# Altium footprint library SOIC.PcbLib: 23 footprints (part 2 of 2)
Each footprint in its own frame and in the unit in brackets; x right, y up, seen from the top. Pads: shape width x height; smd on the part's side, far side on the other; paste and mask are expansions set on the pad; w line width, h text height; cw(c..) or ccw(c..) is an arc to the next point about the centre after c.
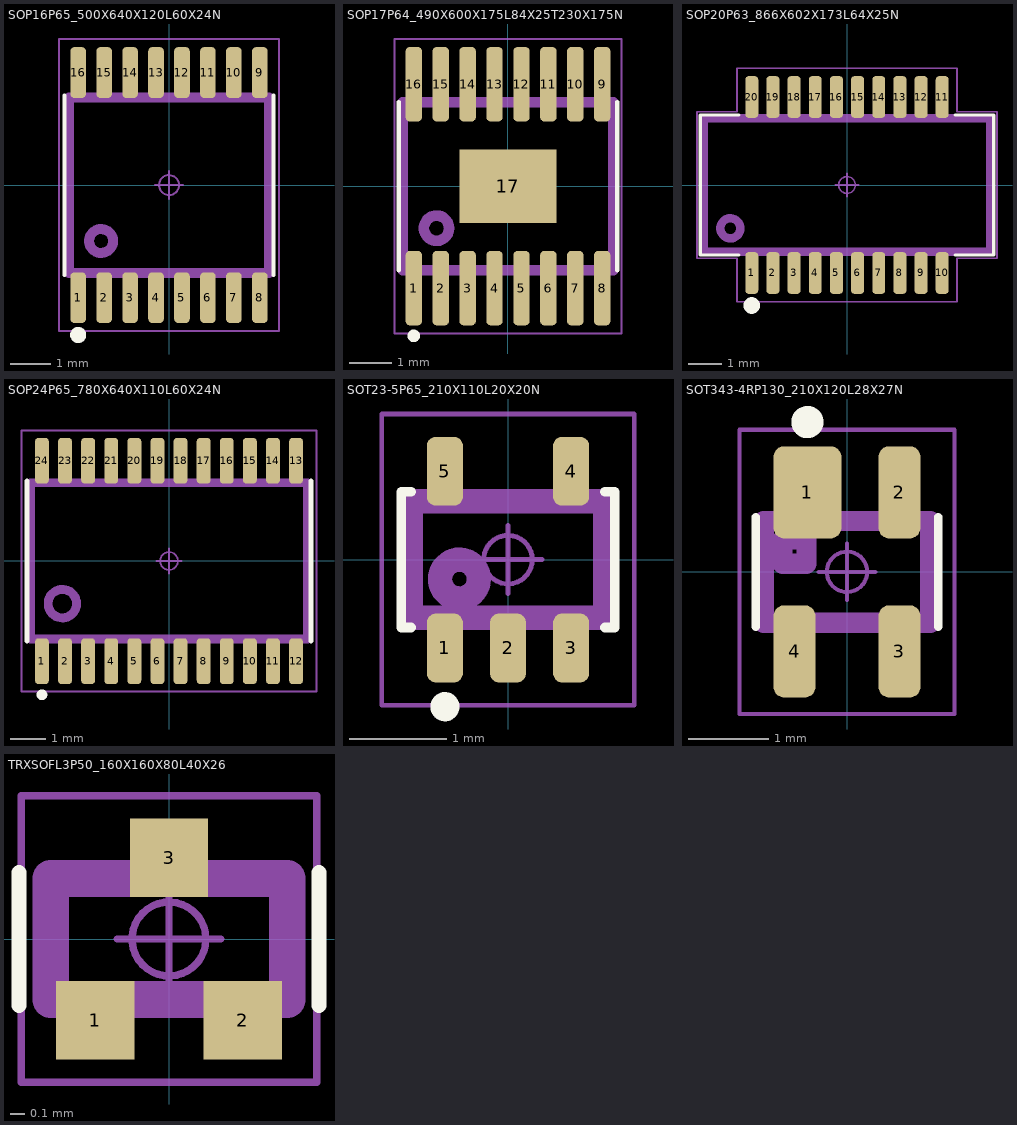
[diagram p1: the footprints below, top view; thin cyan lines are the x and y axes]

## SOP16P65_500X640X120L60X24N [mm] "Small Outline Pkg (SOP), 0.65 mm pitch; 16 pin, 5.00 mm L X 4.40 mm W X 1.20 mm H body"
height 1.2
pads (16):
  rrect51% 0.39x1.27 smd: 1(-2.275,-2.82) 2(-1.625,-2.82) 3(-0.975,-2.82) 4(-0.325,-2.82) 5(0.325,-2.82) 6(0.975,-2.82) 7(1.625,-2.82) 8(2.275,-2.82) 9(2.275,2.82) 10(1.625,2.82) 11(0.975,2.82) 12(0.325,2.82) 13(-0.325,2.82) 14(-0.975,2.82) 15(-1.625,2.82) 16(-2.275,2.82)
Top Overlay:
  circle w0.2: c-2.275,-3.755 r0.1
  lines w0.1: -2.62,-2.25 -2.62,2.25 ; 2.62,-2.25 2.62,2.25
Top Assembly:
  circle w0.25: c-1.7,-1.4 r0.3
  lines w0.25: -2.5,-2.2 -2.5,2.2 2.5,2.2 2.5,-2.2 -2.5,-2.2
  text ".Designator" at -2.2,-0.3 h1.5
Top Courtyard:
  circle w0.05: c0,0 r0.25
  lines w0.05: -0.35,0 0.35,0 ; 0,-0.35 0,0.35 ; -2.75,-3.66 -2.75,3.66 2.75,3.66 2.75,-3.66 -2.75,-3.66
3D body "SOP16P65_500X640X120L60X24.STEP": height 1.2, standoff 0, extent -2.5,-3.2 2.5,3.2

## SOP17P64_490X600X175L84X25T230X175N [mm] "Small Outline Pkg (SOP with Tab), 0.64 mm pitch; 16 pin, 4.90 mm L X 3.90 mm W X 1.75 mm H body"
height 1.75
pads (17):
  rrect51% 0.39x1.77 smd: 1(-2.24,-2.425) 2(-1.6,-2.425) 3(-0.96,-2.425) 4(-0.32,-2.425) 5(0.32,-2.425) 6(0.96,-2.425) 7(1.6,-2.425) 8(2.24,-2.425) 9(2.24,2.425) 10(1.6,2.425) 11(0.96,2.425) 12(0.32,2.425) 13(-0.32,2.425) 14(-0.96,2.425) 15(-1.6,2.425) 16(-2.24,2.425)
  rect 2.3x1.75 smd paste-2.3: 17(0,0)
Top Overlay:
  circle w0.15: c-2.24,-3.56 r0.075
  lines w0.1: -2.6,-2 -2.6,2 ; 2.6,-2 2.6,2
Top Paste:
  region: 1.005,-0.735 0.145,-0.735 0.145,-0.145 1.005,-0.145
  region: 1.005,0.145 0.145,0.145 0.145,0.735 1.005,0.735
  region: -0.145,-0.735 -1.005,-0.735 -1.005,-0.145 -0.145,-0.145
  region: -0.145,0.145 -1.005,0.145 -1.005,0.735 -0.145,0.735
Top Assembly:
  circle w0.25: c-1.7,-1 r0.3
  lines w0.25: -2.5,-2 -2.5,2 2.5,2 2.5,-2 -2.5,-2
  text ".Designator" at -2.2,-0.2 h1.5
Top Courtyard:
  circle w0.05: c0,0 r0.25
  lines w0.05: -0.35,0 0.35,0 ; 0,-0.35 0,0.35 ; -2.7,-3.5 -2.7,3.5 2.7,3.5 2.7,-3.5 -2.7,-3.5
3D body "SOP17P64_490X600X175L84X25T230X175.STEP": height 1.75, standoff 0, extent -2.45,-3 2.45,3

## SOP20P63_866X602X173L64X25N [mm] "Small Outline Pkg (SOP), 0.635 mm pitch; 20 pin, 8.66 mm L X 3.91 mm W X 1.73 mm H body"
height 1.73
pads (20):
  rrect51% 0.39x1.25 smd: 1(-2.857,-2.64) 2(-2.222,-2.64) 3(-1.587,-2.64) 4(-0.953,-2.64) 5(-0.318,-2.64) 6(0.318,-2.64) 7(0.953,-2.64) 8(1.587,-2.64) 9(2.222,-2.64) 10(2.857,-2.64) 11(2.857,2.64) 12(2.222,2.64) 13(1.587,2.64) 14(0.953,2.64) 15(0.318,2.64) 16(-0.318,2.64) 17(-0.953,2.64) 18(-1.587,2.64) 19(-2.222,2.64) 20(-2.857,2.64)
Top Overlay:
  circle w0.25: c-2.857,-3.615 r0.125
  lines w0.1: -3.25,-2.1 -4.4,-2.1 -4.4,2.1 -3.25,2.1 ; 3.25,-2.1 4.4,-2.1 4.4,2.1 3.25,2.1
Top Assembly:
  circle w0.25: c-3.5,-1.3 r0.3
  lines w0.25: -4.3,-2 4.3,-2 4.3,2 -4.3,2 -4.3,-2
  text ".Designator" at -2.7,-0.3 h1.5
Top Courtyard:
  circle w0.05: c0,0 r0.25
  lines w0.05: -0.35,0 0.35,0 ; 0,-0.35 0,0.35 ; -4.5,-2.2 -3.3,-2.2 -3.3,-3.5 3.3,-3.5 3.3,-2.2 4.5,-2.2 4.5,2.2 3.3,2.2 3.3,3.5 -3.3,3.5 -3.3,2.2 -4.5,2.2 -4.5,-2.2
3D body "SOP20P63_866X602X173L64X25.STEP": height 1.73, standoff 0, extent -4.33,-3.01 4.33,3.01

## SOP24P65_780X640X110L60X24N [mm] "Small Outline Pkg (SOP), 0.65 mm pitch; 24 pin, 7.80 mm L X 4.40 mm W X 1.10 mm H body"
height 1.1
pads (24):
  rrect51% 0.39x1.29 smd: 1(-3.575,-2.82) 2(-2.925,-2.82) 3(-2.275,-2.82) 4(-1.625,-2.82) 5(-0.975,-2.82) 6(-0.325,-2.82) 7(0.325,-2.82) 8(0.975,-2.82) 9(1.625,-2.82) 10(2.275,-2.82) 11(2.925,-2.82) 12(3.575,-2.82) 13(3.575,2.82) 14(2.925,2.82) 15(2.275,2.82) 16(1.625,2.82) 17(0.975,2.82) 18(0.325,2.82) 19(-0.325,2.82) 20(-0.975,2.82) 21(-1.625,2.82) 22(-2.275,2.82) 23(-2.925,2.82) 24(-3.575,2.82)
Top Overlay:
  circle w0.15: c-3.575,-3.765 r0.075
  lines w0.15: -3.995,-2.25 -3.995,2.25 ; 3.995,-2.25 3.995,2.25
Top Assembly:
  circle w0.25: c-3,-1.2 r0.4
  lines w0.25: -3.9,-2.2 3.9,-2.2 3.9,2.2 -3.9,2.2 -3.9,-2.2
  text ".Designator" at -3,-0.3 h1.5
Top Courtyard:
  circle w0.05: c0,0 r0.25
  lines w0.05: -0.35,0 0.35,0 ; 0,-0.35 0,0.35 ; -4.15,-3.67 4.15,-3.67 4.15,3.67 -4.15,3.67 -4.15,-3.67
3D body "SOP24P65_780X640X110L60X24.STEP": height 1.1, standoff 0, extent -3.9,-3.2 3.9,3.2

## SOT23-5P65_210X110L20X20N [mm] "Small Outline Transistor (SOT23), 0.65 mm pitch; 5 pin, 2.00 mm L X 1.25 mm W X 1.10 mm H body"
height 1.1
pads (5):
  rrect49% 0.37x0.71 smd: 1(-0.65,-0.91) 2(0,-0.91) 3(0.65,-0.91) 4(0.65,0.91) 5(-0.65,0.91)
Top Overlay:
  circle w0.15: c-0.65,-1.515 r0.075
  lines w0.1: -1,-0.7 -1.1,-0.7 -1.1,0.7 -1,0.7 ; 1,-0.7 1.1,-0.7 1.1,0.7 1,0.7
Top Assembly:
  circle w0.25: c-0.5,-0.2 r0.2
  lines w0.25: -1,-0.6 1,-0.6 1,0.6 -1,0.6 -1,-0.6
  text ".Designator" at -2.3,1.1 h1.5
Top Courtyard:
  circle w0.05: c0,0 r0.25
  lines w0.05: -0.35,0 0.35,0 ; 0,-0.35 0,0.35 ; -1.3,-1.5 1.3,-1.5 1.3,1.5 -1.3,1.5 -1.3,-1.5
3D body "SOT23-5P65_210X110L20X20.STEP": height 1.1, standoff 0, extent -1,-1.05 1,1.05

## SOT343-4RP130_210X120L28X27N [mm] "Small Outline Transistor (SOT143), 1.30 mm pitch; 4 pin, 2.05 mm L X 1.25 mm W X 1.20 mm H body (w/reversed pins)"
height 1.2
pads (4):
  rrect31% 0.84x1.14 smd: 1(-0.49,0.985)
  rrect50% 0.52x1.14 smd: 2(0.65,0.985) 3(0.65,-0.985) 4(-0.65,-0.985)
Top Overlay:
  circle w0.2: c-0.49,1.855 r0.1
  lines w0.1: -1.13,-0.68 -1.13,0.68 ; 1.13,-0.68 1.13,0.68
Top Assembly:
  lines w0.25: -1.03,-0.63 -1.03,0.63 1.03,0.63 1.03,-0.63 -1.03,-0.63 ; -0.8,0.1 -0.8,0.4 -0.5,0.4 -0.5,0.1 -0.8,0.1
  text ".Designator" at -2.4,1.2 h1.5
Top Courtyard:
  circle w0.05: c0,0 r0.25
  lines w0.05: -0.35,0 0.35,0 ; 0,-0.35 0,0.35 ; -1.33,-1.76 -1.33,1.76 1.33,1.76 1.33,-1.76 -1.33,-1.76
3D body "SOT343-4RP130_210X120L28X27.STEP": height 1.2, standoff 0, extent -1.025,-1.05 1.025,1.05

## TRXSOFL3P50_160X160X80L40X26 [mm] "Transistor, Small Outline Flat Lead (SOFL), 0.50 mm pitch; 3 pin, 1.60 mm L X 0.825 mm W X 0.80 mm H body"
height 0.8
pads (3):
  rect 0.53x0.53 smd: 1(-0.5,-0.55) 2(0.5,-0.55) 3(0,0.55)
Top Overlay:
  lines w0.1: -1.015,-0.45 -1.015,0.45 ; 1.015,-0.45 1.015,0.45
Top Assembly:
  lines w0.25: -0.8,-0.41 -0.8,0.41 0.8,0.41 0.8,-0.41 -0.8,-0.41
  text ".Designator" at -2.4,1 h1.5
Top Courtyard:
  circle w0.05: c0,0 r0.25
  lines w0.05: -0.35,0 0.35,0 ; 0,-0.35 0,0.35 ; -1,-0.97 -1,0.97 1,0.97 1,-0.97 -1,-0.97
3D body "TRXSOFL3P50_160X160X80L40X26.STEP": height 0.8, standoff 0, extent -0.8,-0.813 0.8,0.813